# EAGLE library part FLAT-FLEX-CONNECTOR-RA-28POS (library FlashPCB_Connectors)
FLAT-FLEX-CONNECTOR-RA-28POS - Flat Flex Connector 28 position Right Angle Technical Specifications: Number of Positions: 28 Contact: Top or Bottom Mount: Right Angle
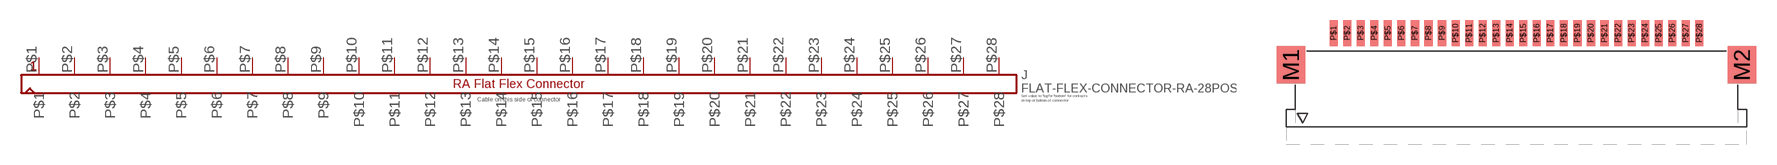
[diagram p118: symbol with the pads of FLAT-FLEX-CONNECTOR-MOLEX-522XX-RA-28POS; footprint FLAT-FLEX-CONNECTOR-MOLEX-522XX-RA-28POS]

Designator prefix J

## FLAT-FLEX-CONNECTOR-RA-28POS1MM-PITCH  [FLAT-FLEX-CONNECTOR-MOLEX-522XX-RA-28POS]
P$1  P$1
P$2  P$2
P$3  P$3
P$4  P$4
P$5  P$5
P$6  P$6
P$7  P$7
P$8  P$8
P$9  P$9
P$10  P$10
P$11  P$11
P$12  P$12
P$13  P$13
P$14  P$14
P$15  P$15
P$16  P$16
P$17  P$17
P$18  P$18
P$19  P$19
P$20  P$20
P$21  P$21
P$22  P$22
P$23  P$23
P$24  P$24
P$25  P$25
P$26  P$26
P$27  P$27
P$28  P$28

## Footprint FLAT-FLEX-CONNECTOR-MOLEX-522XX-RA-28POS (pad centres in mm)
smd 2.1 x 2.8: M1 -16.65,-1.4; M2 16.65,-1.4
smd 0.6 x 1.9: P$1 -13.5,0.95; P$2 -12.5,0.95; P$3 -11.5,0.95; P$4 -10.5,0.95; P$5 -9.5,0.95; P$6 -8.5,0.95; P$7 -7.5,0.95; P$8 -6.5,0.95; P$9 -5.5,0.95; P$10 -4.5,0.95; P$11 -3.5,0.95; P$12 -2.5,0.95; P$13 -1.5,0.95; P$14 -0.5,0.95; P$15 0.5,0.95; P$16 1.5,0.95; P$17 2.5,0.95; P$18 3.5,0.95; P$19 4.5,0.95; P$20 5.5,0.95; P$21 6.5,0.95; P$22 7.5,0.95; P$23 8.5,0.95; P$24 9.5,0.95; P$25 10.5,0.95; P$26 11.5,0.95; P$27 12.5,0.95; P$28 13.5,0.95